# Altium schematic symbol library CSD86350Q5D.SchLib: 1 symbol
Pins are listed as number, name and electrical type; pins without a type are passive.

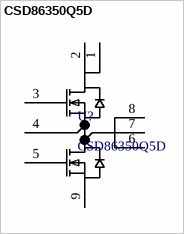
[diagram p0: symbol CSD86350Q5D]

## CSD86350Q5D
designator U?
Manufacturer: Texas Instruments; CompType: IC; PIN_COUNT: 9; Application_BuildNumber: *; PartNumber: CSD86350Q5D; PackageReference: DQY0008A; MountType: SMT; RoHS: Y; RefDes: RefDes; Type: DEV; Value: Value
footprint CSD86350Q5DDQY
pins: 1 VIN, 2 VIN, 3 TG, 4 TGR, 5 BG, 6 VSW, 7 VSW, 8 VSW, 9 PGND